# Altium schematic symbol library SCH - RTC - MICRO CRYSTAL RV8803.SCHLIB: 1 symbol
Pins are listed as number, name and electrical type; pins without a type are passive.

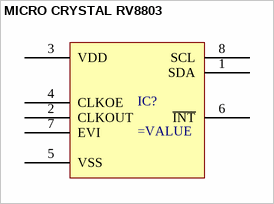
[diagram p0: symbol MICRO CRYSTAL RV8803]

## MICRO CRYSTAL RV8803
designator IC?
pins: 1 SDA, 2 CLKOUT, 3 VDD, 4 CLKOE, 5 VSS, 6 ~{INT}, 7 EVI, 8 SCL